# Altium footprint library antenna.PCBLIB: 9 footprints
Each footprint in its own frame and in the unit in brackets; x right, y up, seen from the top. Pads: shape width x height; smd on the part's side, far side on the other; paste and mask are expansions set on the pad; w line width, h text height; cw(c..) or ccw(c..) is an arc to the next point about the centre after c.
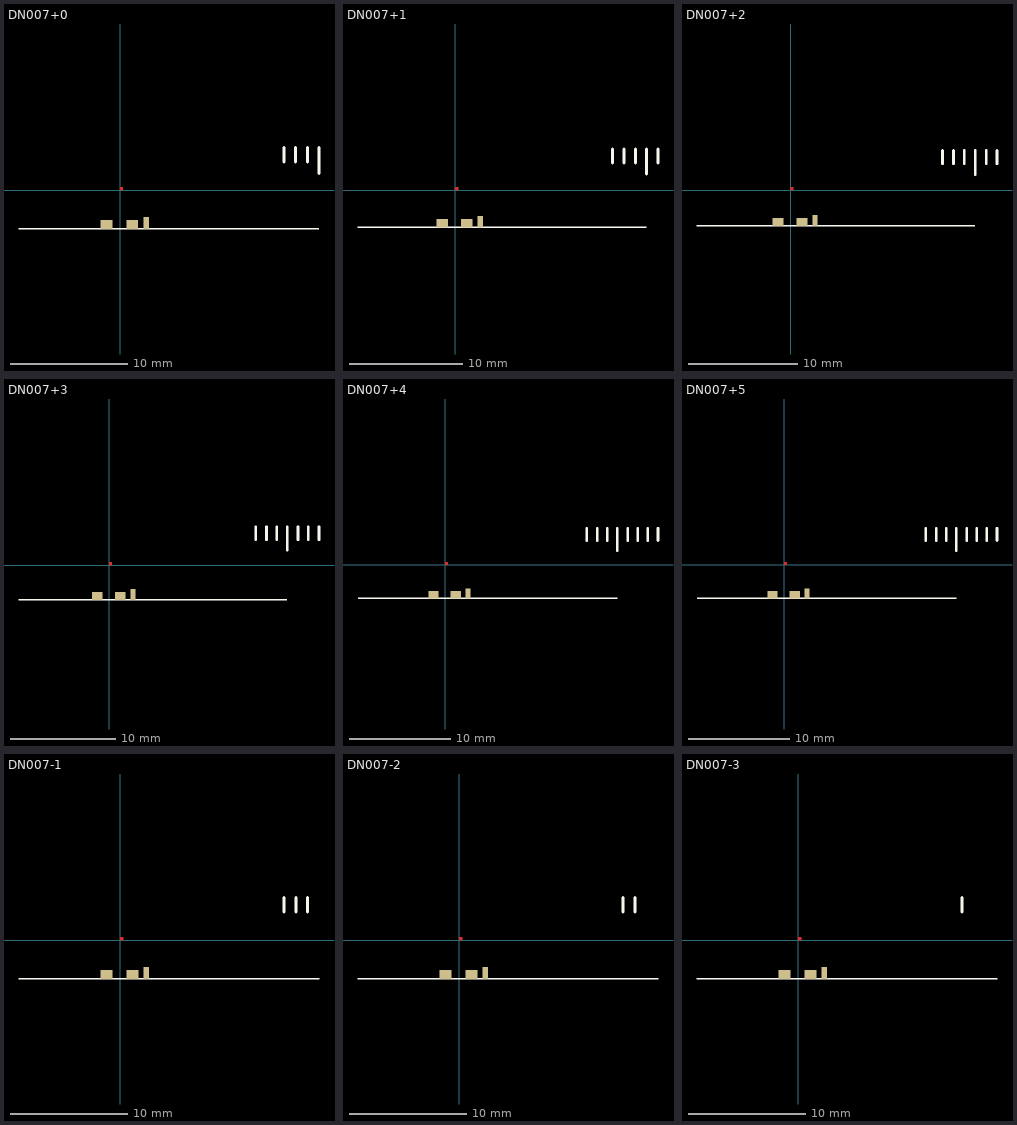
[diagram p0: the footprints below, top view; thin cyan lines are the x and y axes]

## DN007+0 [mil]
pads (3):
  rect 19x40 smd: FEED(88,-110.24)
  rect 40x30 smd: GND(-45.67,-115.35) GND@1(41,-115.35)
Top Layer:
  region: 0,0 10,0 10,10 0,10
Top Overlay:
  lines w5: -338.58,-129.92 666,-129.92
  lines w10: 549,95 549,143 ; 589,95 589,143 ; 628,95 628,143 ; 667,56 667,143

## DN007+1 [mil]
pads (3):
  rect 19x40 smd: FEED(88,-110.24)
  rect 40x30 smd: GND(-45.67,-115.35) GND@1(41,-115.35)
Top Layer:
  region: 0,0 10,0 10,10 0,10
Top Overlay:
  lines w5: -338.58,-129.92 666,-129.92
  lines w10: 549,95 549,143 ; 589,95 589,143 ; 628,95 628,143 ; 667,56 667,143 ; 707,95 707,143

## DN007+2 [mil]
pads (3):
  rect 19x40 smd: FEED(88,-110.24)
  rect 40x30 smd: GND(-45.67,-115.35) GND@1(41,-115.35)
Top Layer:
  region: 0,0 10,0 10,10 0,10
Top Overlay:
  lines w5: -338.58,-129.92 666,-129.92
  lines w10: 549,95 549,143 ; 589,95 589,143 ; 628,95 628,143 ; 667,56 667,143 ; 707,95 707,143 ; 746,95 746,143

## DN007+3 [mil]
pads (3):
  rect 19x40 smd: FEED(88,-110.24)
  rect 40x30 smd: GND(-45.67,-115.35) GND@1(41,-115.35)
Top Layer:
  region: 0,0 10,0 10,10 0,10
Top Overlay:
  lines w5: -338.58,-129.92 666,-129.92
  lines w10: 549,95 549,143 ; 589,95 589,143 ; 628,95 628,143 ; 667,56 667,143 ; 707,95 707,143 ; 746,95 746,143 ; 786,95 786,143

## DN007+4 [mil]
pads (3):
  rect 19x40 smd: FEED(88,-110.24)
  rect 40x30 smd: GND(-45.67,-115.35) GND@1(41,-115.35)
Top Layer:
  region: 0,0 10,0 10,10 0,10
Top Overlay:
  lines w5: -338.58,-129.92 666,-129.92
  lines w10: 549,95 549,143 ; 589,95 589,143 ; 628,95 628,143 ; 667,56 667,143 ; 707,95 707,143 ; 746,95 746,143 ; 786,95 786,143 ; 825,95 825,143

## DN007+5 [mil]
pads (3):
  rect 19x40 smd: FEED(88,-110.24)
  rect 40x30 smd: GND(-45.67,-115.35) GND@1(41,-115.35)
Top Layer:
  region: 0,0 10,0 10,10 0,10
Top Overlay:
  lines w5: -338.58,-129.92 666,-129.92
  lines w10: 549,95 549,143 ; 589,95 589,143 ; 628,95 628,143 ; 667,56 667,143 ; 707,95 707,143 ; 746,95 746,143 ; 786,95 786,143 ; 825,95 825,143

## DN007-1 [mil]
pads (3):
  rect 19x40 smd: FEED(88,-110.24)
  rect 40x30 smd: GND(-45.67,-115.35) GND@1(41,-115.35)
Top Layer:
  region: 0,0 10,0 10,10 0,10
Top Overlay:
  lines w5: -338.58,-129.92 666,-129.92
  lines w10: 549,95 549,143 ; 589,95 589,143 ; 628,95 628,143

## DN007-2 [mil]
pads (3):
  rect 19x40 smd: FEED(88,-110.24)
  rect 40x30 smd: GND(-45.67,-115.35) GND@1(41,-115.35)
Top Layer:
  region: 0,0 10,0 10,10 0,10
Top Overlay:
  lines w5: -338.58,-129.92 666,-129.92
  lines w10: 549,95 549,143 ; 589,95 589,143

## DN007-3 [mil]
pads (3):
  rect 19x40 smd: FEED(88,-110.24)
  rect 40x30 smd: GND(-45.67,-115.35) GND@1(41,-115.35)
Top Layer:
  region: 0,0 10,0 10,10 0,10
Top Overlay:
  lines w5: -338.58,-129.92 666,-129.92
  lines w10: 549,95 549,143